# Altium footprint library Passive.PcbLib: 235 footprints (part 4 of 15)
Each footprint in its own frame and in the unit in brackets; x right, y up, seen from the top. Pads: shape width x height; smd on the part's side, far side on the other; paste and mask are expansions set on the pad; w line width, h text height; cw(c..) or ccw(c..) is an arc to the next point about the centre after c.
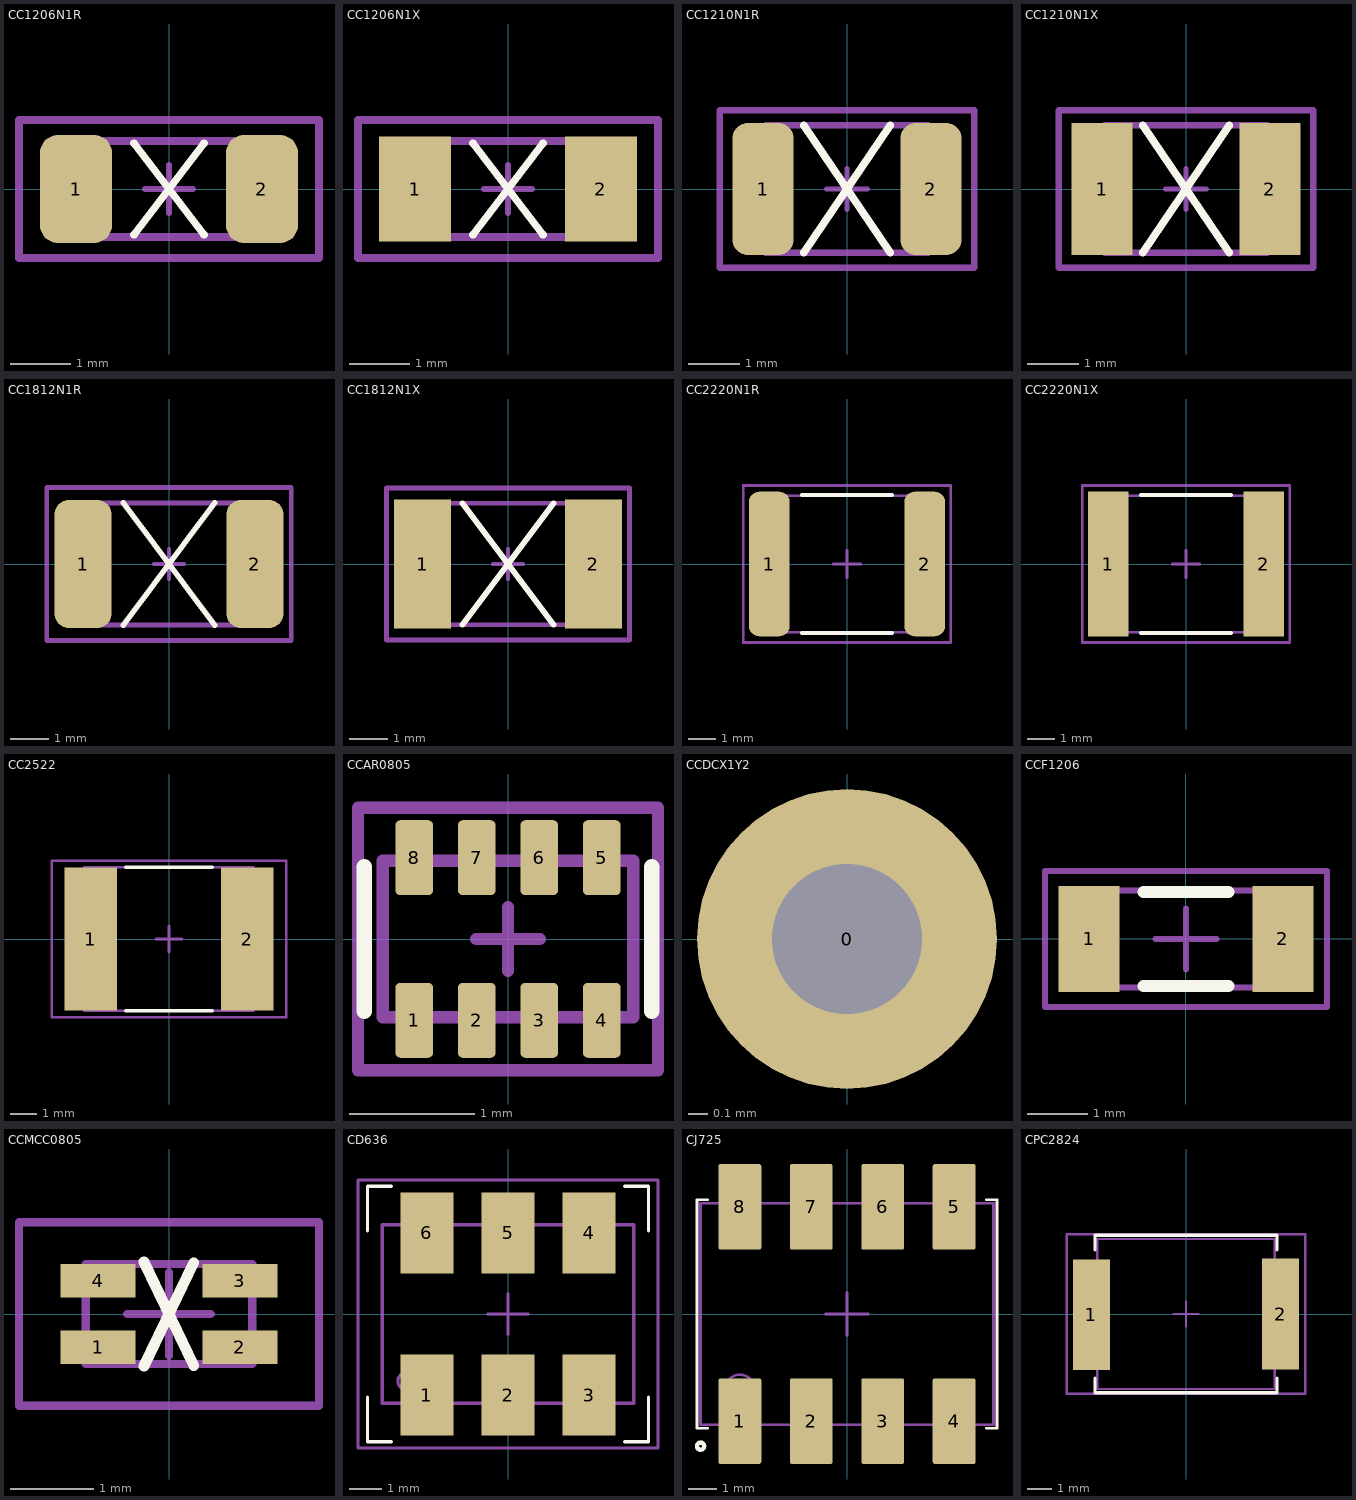
[diagram p3: the footprints below, top view; thin cyan lines are the x and y axes]

## CC1206N1R [mm] "Chip capacitor 1206 ROUNDED PAD"
height 1.3
pads (2):
  rrect50% 1.2x1.8 smd: 1(-1.55,0) 2(1.55,0)
Top Overlay:
  lines w0.127: -0.584,-0.762 0.584,0.762 ; -0.584,0.762 0.584,-0.762
Mechanical 13:
  lines w0.127: -1.6,-0.8 1.6,-0.8 1.6,0.8 -1.6,0.8 -1.6,-0.8
Mechanical 15:
  lines w0.102: -0.4,0 0.4,0 ; 0,-0.4 0,0.4
  lines w0.127: -2.5,-1.15 -2.5,1.15 2.5,1.15 2.5,-1.15 -2.5,-1.15
3D body: height 1.35, standoff 0, extent 1.1,-0.8 1.6,0.8
3D body: height 1.35, standoff 0, extent -1.6,-0.8 -1.1,0.8
3D body: height 1.35, standoff 0, extent -1.1,-0.8 1.1,0.8

## CC1206N1X [mm] "Chip capacitor 1206"
height 1.3
pads (2):
  rect 1.2x1.75 smd: 1(-1.55,0) 2(1.55,0)
Top Overlay:
  lines w0.127: -0.584,-0.762 0.584,0.762 ; -0.584,0.762 0.584,-0.762
Mechanical 13:
  lines w0.127: -1.6,-0.8 -1.6,0.8 1.6,0.8 1.6,-0.8 -1.6,-0.8
Mechanical 15:
  lines w0.102: -0.4,0 0.4,0 ; 0,-0.4 0,0.4
  lines w0.127: -2.5,-1.15 2.5,-1.15 2.5,1.15 -2.5,1.15 -2.5,-1.15
3D body: height 1.35, standoff 0, extent -1.1,-0.8 1.1,0.8
3D body: height 1.35, standoff 0, extent -1.6,-0.8 -1.1,0.8
3D body: height 1.35, standoff 0, extent 1.1,-0.8 1.6,0.8

## CC1210N1R [mm] "Chip capacitor 1210 ROUNDED PAD"
height 1.7
pads (2):
  rrect50% 1.2x2.6 smd: 1(-1.65,0) 2(1.65,0)
Top Overlay:
  lines w0.15: -0.85,-1.25 0.85,1.25 ; -0.85,1.25 0.85,-1.25
Mechanical 13:
  lines w0.127: -1.6,-1.25 1.6,-1.25 1.6,1.25 -1.6,1.25 -1.6,-1.25
Mechanical 15:
  lines w0.102: -0.4,0 0.4,0 ; 0,-0.4 0,0.4
  lines w0.127: -2.5,-1.55 -2.5,1.55 2.5,1.55 2.5,-1.55 -2.5,-1.55
3D body: height 1.5, standoff 0, extent 1.1,-1.25 1.6,1.25
3D body: height 1.5, standoff 0, extent -1.1,-1.25 1.1,1.25
3D body: height 1.5, standoff 0, extent -1.6,-1.25 -1.1,1.25

## CC1210N1X [mm] "Chip capacitor 1210"
height 1.7
pads (2):
  rect 1.2x2.6 smd: 1(-1.65,0) 2(1.65,0)
Top Overlay:
  lines w0.15: -0.85,-1.25 0.85,1.25 ; -0.85,1.25 0.85,-1.25
Mechanical 13:
  lines w0.127: -1.6,-1.25 1.6,-1.25 1.6,1.25 -1.6,1.25 -1.6,-1.25
Mechanical 15:
  lines w0.102: -0.4,0 0.4,0 ; 0,-0.4 0,0.4
  lines w0.127: -2.5,-1.55 -2.5,1.55 2.5,1.55 2.5,-1.55 -2.5,-1.55
3D body: height 1.5, standoff 0, extent 1.1,-1.25 1.6,1.25
3D body: height 1.5, standoff 0, extent -1.1,-1.25 1.1,1.25
3D body: height 1.5, standoff 0, extent -1.6,-1.25 -1.1,1.25

## CC1812N1R [mm] "Chip capacitor 1812 ROUNDED PAD"
height 1.3
pads (2):
  rrect50% 1.5x3.35 smd: 1(-2.25,0) 2(2.25,0)
Top Overlay:
  lines w0.15: -1.2,-1.6 1.2,1.6 ; -1.2,1.6 1.2,-1.6
Mechanical 13:
  lines w0.127: -2.25,-1.6 2.25,-1.6 2.25,1.6 -2.25,1.6 -2.25,-1.6
Mechanical 15:
  lines w0.102: -0.4,0 0.4,0 ; 0,-0.4 0,0.4
  lines w0.127: -3.2,-2 -3.2,2 3.2,2 3.2,-2 -3.2,-2
3D body: height 1.5, standoff 0, extent -2.25,-1.6 -1.6,1.6
3D body: height 1.5, standoff 0, extent -1.6,-1.6 1.6,1.6
3D body: height 1.5, standoff 0, extent 1.6,-1.6 2.25,1.6

## CC1812N1X [mm] "Chip capacitor 1812"
height 1.3
pads (2):
  rect 1.5x3.4 smd: 1(-2.25,0) 2(2.25,0)
Top Overlay:
  lines w0.15: -1.2,-1.6 1.2,1.6 ; -1.2,1.6 1.2,-1.6
Mechanical 13:
  lines w0.127: -2.25,-1.6 2.25,-1.6 2.25,1.6 -2.25,1.6 -2.25,-1.6
Mechanical 15:
  lines w0.102: -0.4,0 0.4,0 ; 0,-0.4 0,0.4
  lines w0.127: -3.2,-2 -3.2,2 3.2,2 3.2,-2 -3.2,-2
3D body: height 1.5, standoff 0, extent -2.25,-1.6 -1.6,1.6
3D body: height 1.5, standoff 0, extent -1.6,-1.6 1.6,1.6
3D body: height 1.5, standoff 0, extent 1.6,-1.6 2.25,1.6

## CC2220N1R [mm] "Chip capacitor 2220 ROUNDED PAD"
height 1.3
pads (2):
  rrect50% 1.5x5.3 smd: 1(-2.85,0) 2(2.85,0)
Top Overlay:
  lines w0.15: -1.65,-2.525 1.65,-2.525 ; -1.65,2.525 1.65,2.525
Mechanical 13:
  lines w0.1: -2.85,-2.5 -2.85,2.5 2.85,2.5 2.85,-2.5 -2.85,-2.5
Mechanical 15:
  lines w0.1: -0.5,0 0.5,0 ; 0,-0.5 0,0.5 ; -3.8,-2.875 -3.8,2.875 3.8,2.875 3.8,-2.875 -3.8,-2.875
3D body: height 1.8, standoff 0, extent 2.2,-2.5 2.85,2.5
3D body: height 1.8, standoff 0, extent -2.85,-2.5 -2.2,2.5
3D body: height 1.8, standoff 0, extent -2.2,-2.5 2.2,2.5

## CC2220N1X [mm] "Chip capacitor 2220"
height 1.3
pads (2):
  rect 1.5x5.3 smd: 1(-2.85,0) 2(2.85,0)
Top Overlay:
  lines w0.15: -1.65,-2.525 1.65,-2.525 ; -1.65,2.525 1.65,2.525
Mechanical 13:
  lines w0.1: -2.85,-2.5 -2.85,2.5 2.85,2.5 2.85,-2.5 -2.85,-2.5
Mechanical 15:
  lines w0.1: -0.5,0 0.5,0 ; 0,-0.5 0,0.5 ; -3.8,-2.875 -3.8,2.875 3.8,2.875 3.8,-2.875 -3.8,-2.875
3D body: height 1.8, standoff 0, extent 2.2,-2.5 2.85,2.5
3D body: height 1.8, standoff 0, extent -2.85,-2.5 -2.2,2.5
3D body: height 1.8, standoff 0, extent -2.2,-2.5 2.2,2.5

## CC2522 [mm] "Chip capacitor 6.5x5.5x5.5mm"
height 5.5
pads (2):
  rect 2x5.5 smd: 1(-3,0) 2(3,0)
Top Overlay:
  lines w0.15: -1.65,-2.75 1.65,-2.75 ; -1.65,2.75 1.65,2.75
Mechanical 13:
  lines w0.1: -3.251,-2.75 -3.251,2.75 3.226,2.75 3.226,-2.75 -3.251,-2.75
Mechanical 15:
  lines w0.1: -0.5,0 0.5,0 ; 0,-0.5 0,0.5 ; -4.5,-3 -4.5,3 4.5,3 4.5,-3 -4.5,-3
3D body: height 5.5, standoff 0, extent 3.275,-2.75 3.35,2.75
3D body: height 0.3, standoff 0, extent -3.35,-2.75 -2.338,2.75
3D body: height 2.8, standoff 0.3, extent -2.5,-2.75 2.5,2.75
3D body: height 5.5, standoff 3, extent -3.225,-2.75 -2.5,2.75
3D body: height 2.8, standoff 0.3, extent 2.5,-2.75 3.225,2.75
3D body: height 5.5, standoff 3, extent 2.5,-2.75 3.225,2.75
3D body: height 2.8, standoff 0.3, extent -3.25,-2.75 -2.5,2.75
3D body: height 5.5, standoff 3, extent -2.5,-2.75 2.5,2.75
3D body: height 5.5, standoff 0, extent -3.35,-2.75 -3.275,2.75
3D body: height 0.3, standoff 0, extent 2.338,-2.75 3.35,2.75

## CCAR0805 [mm] "Chip capacitor  array 0805"
height 0.85
pads (8):
  rrect25% 0.3x0.6 smd mask+0.051: 1(-0.75,-0.65) 2(-0.25,-0.65) 3(0.25,-0.65) 4(0.75,-0.65) 5(0.75,0.65) 6(0.25,0.65) 7(-0.25,0.65) 8(-0.75,0.65)
Top Overlay:
  lines w0.127: -1.15,-0.575 -1.15,0.575 ; 1.15,-0.575 1.15,0.575
Mechanical 13:
  lines w0.1: -1,-0.625 1,-0.625 1,0.625 -1,0.625 -1,-0.625
Mechanical 15:
  lines w0.1: -0.254,0 0.254,0 ; 0,-0.254 0,0.254 ; -1.2,-1.05 -1.2,1.05 1.2,1.05 1.2,-1.05 -1.2,-1.05
3D body: height 0.5, standoff 0, extent 0.125,-0.625 0.375,-0.45
3D body: height 0.5, standoff 0, extent -0.375,-0.625 -0.125,-0.45
3D body: height 0.5, standoff 0, extent -0.875,-0.625 -0.625,-0.45
3D body: height 0.5, standoff 0, extent 0.625,-0.625 0.875,-0.45
3D body: height 0.5, standoff 0, extent -0.875,0.45 -0.625,0.625
3D body: height 0.5, standoff 0, extent 0.625,0.45 0.875,0.625
3D body: height 0.5, standoff 0, extent 0.125,0.45 0.375,0.625
3D body: height 0.5, standoff 0, extent -0.375,0.45 -0.125,0.625
3D body: height 0.5, standoff 0, extent -1,-0.625 1,0.625

## CCDCX1Y2 [mil] "Disc capacitor K type"
height 629.92
pads (1):
  round 60 hole 30: 0(0,0)

## CCF1206 [mm] "Chip Capacitor Film, 2-Leads, Body 3,3x1,6mm, IPC Medium Density"
height 1.2
pads (2):
  rect 1x1.75 smd: 1(-1.6,0) 2(1.6,0)
Top Overlay:
  lines w0.2: -0.7,-0.775 0.7,-0.775 ; -0.7,0.775 0.7,0.775
Mechanical 13:
  lines w0.1: -1.65,-0.8 1.65,-0.8 1.65,0.8 -1.65,0.8 -1.65,-0.8
Mechanical 15:
  lines w0.1: -0.5,0 0.5,0 ; 0,-0.5 0,0.5 ; -2.325,-1.125 2.325,-1.125 2.325,1.125 -2.325,1.125 -2.325,-1.125
3D body: height 1.15, standoff 0, extent 1.1,-0.8 1.65,0.8
3D body: height 1.15, standoff 0, extent -1.65,-0.8 -1.1,0.8
3D body: height 1.15, standoff 0, extent -1.1,-0.8 1.1,0.8

## CCMCC0805 [mm] "Chip Common Mode Choke Coil 0805"
height 1.2
pads (4):
  rect 0.9x0.4 smd: 1(-0.85,-0.4) 2(0.85,-0.4) 3(0.85,0.4) 4(-0.85,0.4)
Top Overlay:
  lines w0.127: -0.3,-0.625 0.296,0.616 ; -0.3,0.625 0.296,-0.618
Mechanical 13:
  lines w0.102: -1,-0.6 1,-0.6 1,0.6 -1,0.6 -1,-0.6
Mechanical 15:
  lines w0.102: -0.5,0 0.5,0 ; 0,-0.5 0,0.5 ; -1.8,-1.1 1.8,-1.1 1.8,1.1 -1.8,1.1 -1.8,-1.1
3D body: height 1.2, standoff 0.17, extent -1,-0.6 1,0.6
3D body: height 0.17, standoff 0, extent -1,0.2 -0.4,0.6
3D body: height 0.17, standoff 0, extent -1,-0.6 -0.4,-0.2
3D body: height 0.17, standoff 0, extent 0.4,-0.6 1,-0.2
3D body: height 0.17, standoff 0, extent 0.4,0.2 1,0.6

## CD636 [mm] "X3 Frequency Multiplier 6 pin R2.54mm"
height 4.11
pads (6):
  rect 1.65x2.54 smd: 1(-2.54,-2.54) 2(0,-2.54) 3(2.54,-2.54) 4(2.54,2.54) 5(0,2.54) 6(-2.54,2.54)
Top Overlay:
  lines w0.102: -4.4,-2.6 -4.4,-4 -3.65,-4 ; -4.4,2.6 -4.4,4 -3.65,4 ; 3.65,-4 4.4,-4 4.4,-2.6 ; 3.65,4 4.4,4 4.4,2.6
Mechanical 13:
  lines w0.102: -2.95,-2.1 cw(c-3.2,-2.1) -2.95,-2.097 ; -3.937,-2.794 -3.937,2.794 3.937,2.794 3.937,-2.794 -3.937,-2.794
Mechanical 15:
  lines w0.102: -0.635,0 0.635,0 ; 0,-0.635 0,0.635 ; -4.7,-4.2 4.7,-4.2 4.7,4.2 -4.7,4.2 -4.7,-4.2
3D body: height 4.14, standoff 4.11, extent -3.449,-2.349 -2.95,-1.841
3D body: height 4.11, standoff 0, extent -3.937,-2.794 3.937,2.794

## CJ725 [mil]
pads (8):
  rrect10% 60x120 smd: 1(-150,-150) 2(-50,-150) 3(50,-150) 4(150,-150) 5(150,150) 6(50,150) 7(-50,150) 8(-150,150)
Top Overlay:
  circle w5.91: c-205,-185 r5
  lines w3.94: -195,-160 -210,-160 -210,160 -195,160 ; 195,-160 210,-160 210,160 195,160
Mechanical 13:
  circle w3.94: c-150,-105 r20
  lines w3.94: -205,-155 205,-155 205,155 -205,155 -205,-155
Mechanical 15:
  lines w3.94: -30,0 30,0 ; 0,-30 0,30
3D body: height 215, standoff 0, extent -205,-155 205,155

## CPC2824 [mm] "Chip plastic 2824 7.2x6.1x5mm"
height 5
pads (2):
  rect 1.5x4.5 smd: 1(-3.85,-0.025) 2(3.85,0)
Top Overlay:
  lines w0.127: -3.7,-2.6 -3.7,-3.2 3.7,-3.2 3.7,-2.6 ; -3.7,2.6 -3.7,3.2 3.7,3.2 3.7,2.6
Mechanical 13:
  lines w0.1: -3.6,-3.05 3.6,-3.05 3.6,3.05 -3.6,3.05 -3.6,-3.05
Mechanical 15:
  lines w0.1: -0.5,0 0.5,0 ; 0,-0.5 0,0.5 ; -4.85,-3.25 4.85,-3.25 4.85,3.25 -4.85,3.25 -4.85,-3.25
3D body: height 5, standoff 0, extent -3.1,-3.05 3.1,3.05
3D body: height 5, standoff 0, extent -3.6,-3.05 -3.1,3.05
3D body: height 5, standoff 0, extent 3.1,-3.05 3.6,3.05